# Altium footprint library CustomParts.PcbLib: 4 footprints
Each footprint in its own frame and in the unit in brackets; x right, y up, seen from the top. Pads: shape width x height; smd on the part's side, far side on the other; paste and mask are expansions set on the pad; w line width, h text height; cw(c..) or ccw(c..) is an arc to the next point about the centre after c.
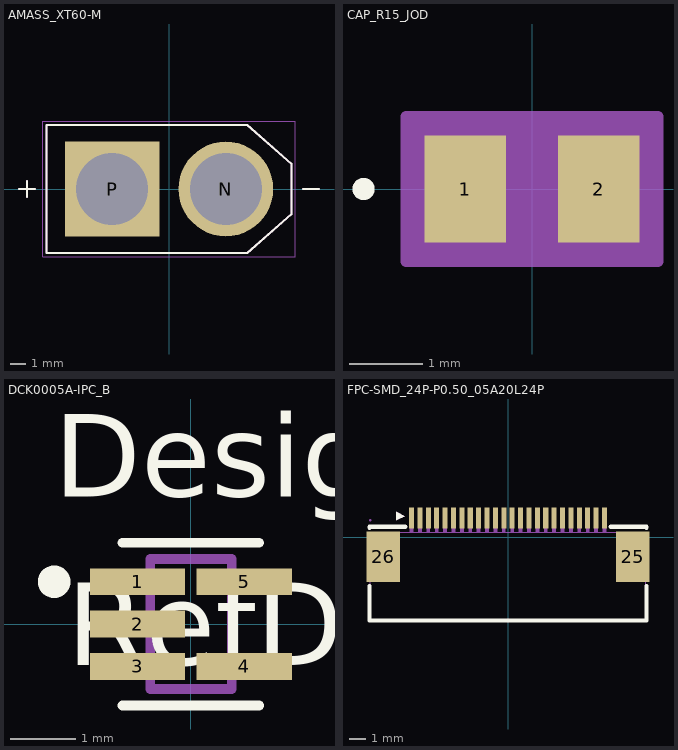
[diagram p0: the footprints below, top view; thin cyan lines are the x and y axes]

## AMASS_XT60-M [mm]
height 16
pads (2):
  round 6 hole 4.55: N(3.6,0)
  rect 6x6 / inner round 6 / far side rect 6x6 hole 4.55: P(-3.6,0)
Top Overlay:
  lines w0.127: -9.5,0 -8.5,0 ; -9,-0.5 -9,0.5 ; 8.5,0 9.5,0 ; -7.75,-4.05 4.95,-4.05 7.75,-1.6 7.75,1.6 4.95,4.05 -7.75,4.05 -7.75,-4.05
Mechanical 13:
  lines w0.127: -9.5,0 -8.5,0 ; -9,-0.5 -9,0.5 ; 8.5,0 9.5,0 ; -7.75,-4.05 4.95,-4.05 7.75,-1.6 7.75,1.6 4.95,4.05 -7.75,4.05 -7.75,-4.05
Mechanical 15:
  lines w0.05: -8,-4.3 -8,4.3 8,4.3 8,-4.3 -8,-4.3
3D body "step_temp.STEP": height 16, standoff -4.5, extent -7.75,-4.05 7.75,4.05

## CAP_R15_JOD [mil]
pads (2):
  rect 44x58 smd paste+0 mask+0: 1(-36,0) 2(36,0)
Top Overlay:
  circle w6: c-91,0 r3
Mechanical 13:
  circle w1: c-31,0 r3
  lines w1: -44,-29 -44,29 ; -44,-29 44,-29 ; -44,-29 -14,-29 -14,29 -44,29 ; -44,-29 -44,29 ; -44,29 44,29 ; 44,-29 44,29 ; 44,-29 44,29 ; 44,-29 14,-29 14,29 44,29
Mechanical 15:
  region: 68,-39 -68,-39 -68,39 68,39
  lines w6: -68,-39 68,-39 68,39 -68,39 -68,-39
3D body "CAP_R15_JOD.step": height 45.98, standoff 0, extent -44.02,-29.02 44.02,29.02

## DCK0005A-IPC_B [mm]
pads (5):
  rect 1.464x0.412 smd paste+0 mask+0: 1(-0.82,0.65) 2(-0.82,0) 3(-0.82,-0.65) 4(0.82,-0.65) 5(0.82,0.65)
Top Overlay:
  circle w0.25: c-2.102,0.65 r0.125
  lines w0.15: -1.05,-1.25 1.05,-1.25 ; -1.05,1.25 1.05,1.25
  text "Designator605" at -2.108,1.956 h1.27
  text "RefDes" at -1.905,-0.635 h1.27
Mechanical 13:
  lines w0.15: -0.625,-1 -0.625,1 0.625,1 0.625,-1 -0.625,-1

## FPC-SMD_24P-P0.50_05A20L24P [mm]
pads (26):
  rect 0.3x1.25 smd paste+0 mask+0.05: 1(-5.75,1.162) 2(-5.25,1.162) 3(-4.75,1.162) 4(-4.25,1.162) 5(-3.75,1.162) 6(-3.25,1.162) 7(-2.75,1.162) 8(-2.25,1.162) 9(-1.75,1.162) 10(-1.25,1.162) 11(-0.75,1.162) 12(-0.25,1.162) 13(0.25,1.162) 14(0.75,1.162) 15(1.25,1.162) 16(1.75,1.162) 17(2.25,1.162) 18(2.75,1.162) 19(3.25,1.162) 20(3.75,1.162) 21(4.25,1.162) 22(4.75,1.162) 23(5.25,1.162) 24(5.75,1.162)
  rect 2x3 smd paste+0 mask+0.05: 25(7.44,-1.162) 26(-7.44,-1.162)
Top Overlay:
  region: -6.156,1.27 -6.664,1.524 -6.664,1.016
  lines w0.254: -8.25,-2.894 -8.25,-4.957 8.25,-4.957 8.25,-2.894 ; -8.25,0.569 -8.25,0.635 -6.131,0.635 ; 6.131,0.635 8.25,0.635 8.25,0.569
Mechanical 6:
  region: -6.156,1.27 -6.664,1.524 -6.664,1.016
Mechanical 15:
  drawing of 55 lines, arcs and shapes, not listed